# Altium footprint library WE-FB.PcbLib: 13 footprints
Each footprint in its own frame and in the unit in brackets; x right, y up, seen from the top. Pads: shape width x height; smd on the part's side, far side on the other; paste and mask are expansions set on the pad; w line width, h text height; cw(c..) or ccw(c..) is an arc to the next point about the centre after c.
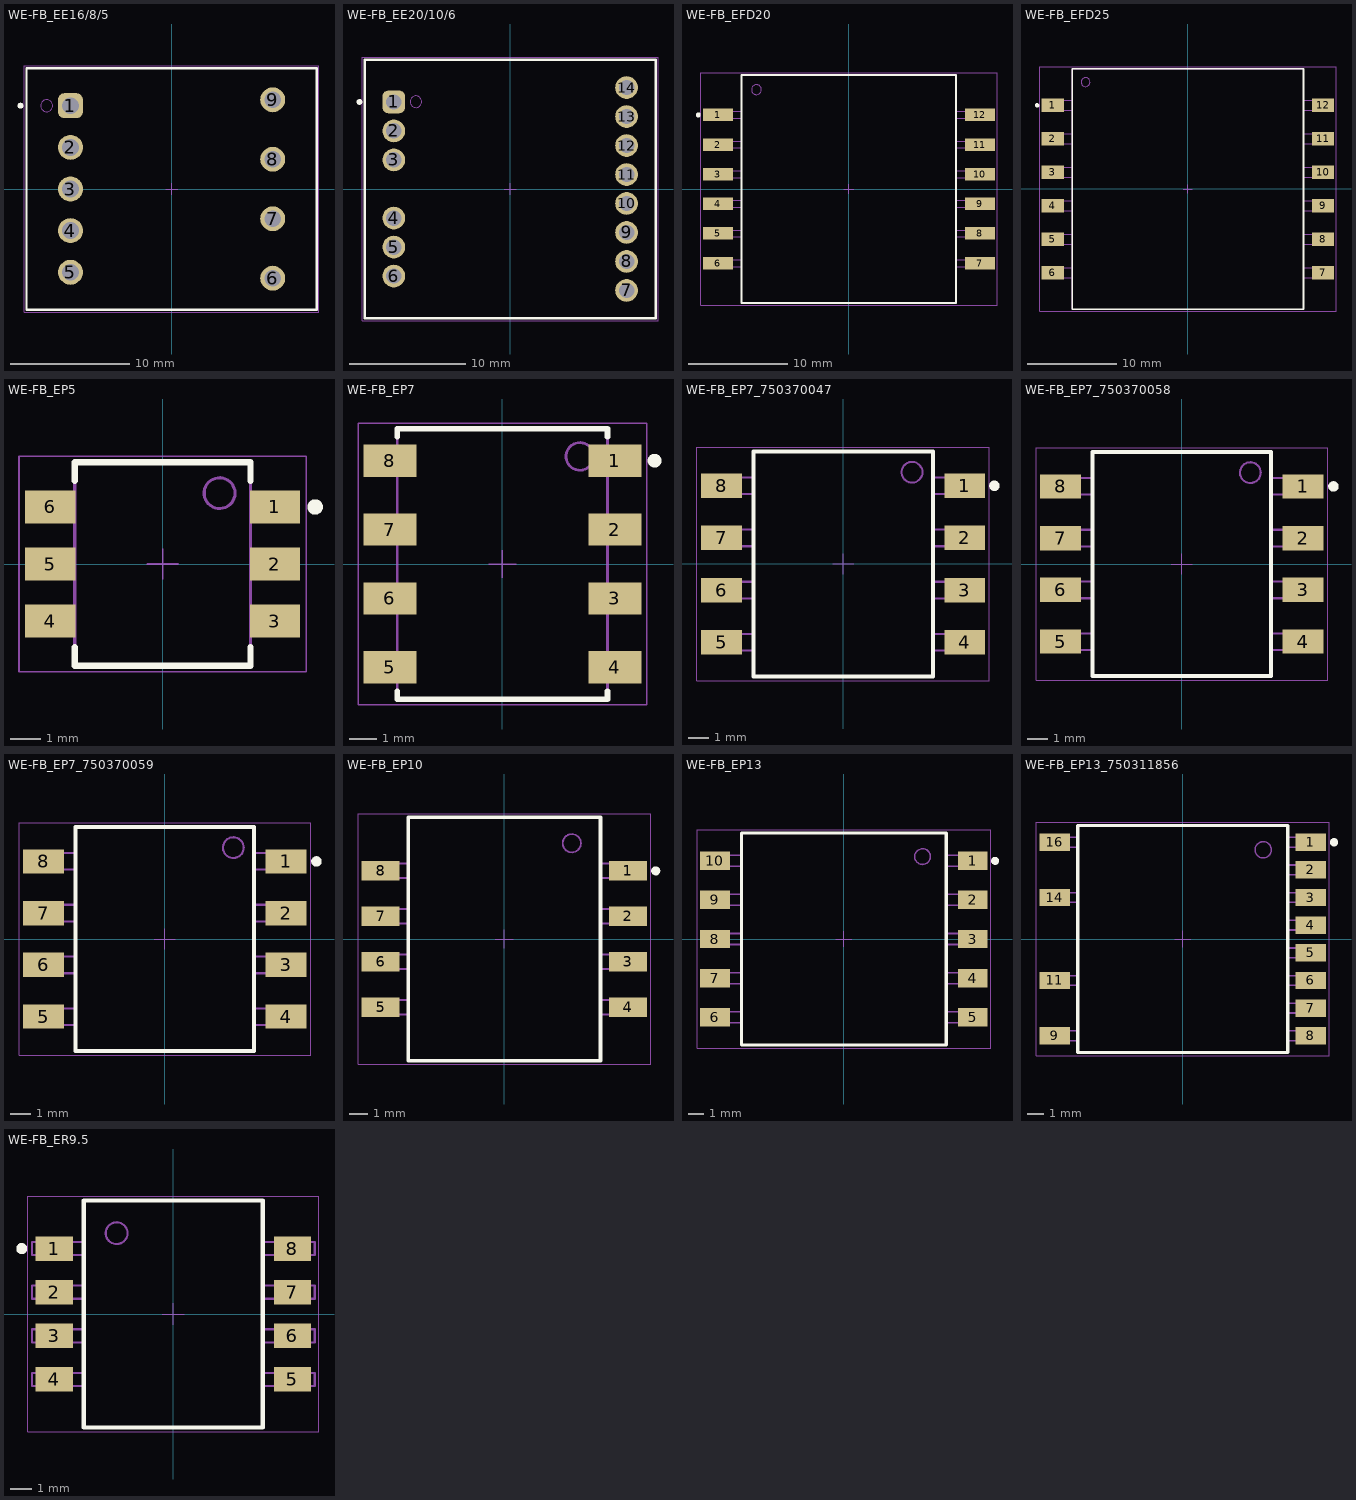
[diagram p0: the footprints below, top view; thin cyan lines are the x and y axes]

## WE-FB_EE16/8/5 [mm] "Flyback Transformer, size EE16/8/5"
height 16
pads (9):
  rrect50% 2.1x2.1 hole 1.42: 1(-8.5,7)
  round 2.1 hole 1.42: 2(-8.5,3.5) 3(-8.5,0) 4(-8.5,-3.5) 5(-8.5,-7) 6(8.5,-7.5) 7(8.5,-2.5) 8(8.5,2.5) 9(8.5,7.5)
Top Overlay:
  circle w0.25: c-12.7,7 r0.125
  lines w0.2: -12.19,-10.16 12.19,-10.16 12.19,10.16 -12.19,10.16 -12.19,-10.16
Top Designator:
  text ".Designator" at -7.498,-0.5 h1.5
Top Component Outline:
  circle w0.1: c-10.5,7 r0.5
  lines w0.1: -12.19,-10.16 12.19,-10.16 12.19,10.16 -12.19,10.16 -12.19,-10.16
Top Courtyard:
  lines w0.05: -0.5,0 0.5,0 ; 0,-0.5 0,0.5 ; -12.39,-10.36 12.39,-10.36 12.39,10.36 -12.39,10.36 -12.39,-10.36
3D body "750811048 (rev1).stp": height 14.95, standoff -3.45, extent -11.9,-9.9 11.9,9.9

## WE-FB_EE20/10/6 [mm] "Flyback Transformer, size EE20/10/6"
height 16
pads (14):
  rrect50% 1.95x1.95 hole 1.32: 1(-10,7.48)
  round 1.95 hole 1.32: 2(-10,4.99) 3(-10,2.5) 4(-10,-2.5) 5(-10,-4.99) 6(-10,-7.48) 7(10,-8.715) 8(10,-6.225) 9(10,-3.735) 10(10,-1.245) 11(10,1.245) 12(10,3.735) 13(10,6.225) 14(10,8.715)
Top Overlay:
  circle w0.25: c-12.95,7.48 r0.125
  lines w0.2: -12.5,-11.1 -12.5,11.1 12.5,11.1 12.5,-11.1 -12.5,-11.1
Top Designator:
  text ".Designator" at -7.498,-0.5 h1.5
Top Component Outline:
  circle w0.1: c-8.1,7.5 r0.5
  lines w0.1: -12.5,-11.1 -12.5,11.1 12.5,11.1 12.5,-11.1 -12.5,-11.1
Top Courtyard:
  lines w0.05: -0.5,0 0.5,0 ; 0,-0.5 0,0.5 ; -12.7,-11.3 -12.7,11.3 12.7,11.3 12.7,-11.3 -12.7,-11.3
3D body "750311911 (rev1).stp": height 15.43, standoff -3.47, extent -12.4,-10.45 12.4,10.45

## WE-FB_EFD20 [mm] "Flyback Transformer, size EFD20"
height 11.43
pads (12):
  rect 3.05x1.27 smd: 1(-13.26,7.5) 2(-13.26,4.5) 3(-13.26,1.5) 4(-13.26,-1.5) 5(-13.26,-4.5) 6(-13.26,-7.5) 7(13.26,-7.5) 8(13.26,-4.5) 9(13.26,-1.5) 10(13.26,1.5) 11(13.26,4.5) 12(13.26,7.5)
Top Overlay:
  circle w0.25: c-15.25,7.5 r0.125
  lines w0.2: -10.855,-11.555 10.855,-11.555 10.855,11.555 -10.855,11.555 -10.855,-11.555
Top Designator:
  text ".Designator" at -7.498,-0.5 h1.5
Top Component Outline:
  circle w0.1: c-9.355,10.055 r0.5
  lines w0.1: -10.855,-7.85 -14.465,-7.85 -14.465,-7.15 -10.855,-7.15 ; -10.855,-4.85 -14.465,-4.85 -14.465,-4.15 -10.855,-4.15 ; -10.855,-1.85 -14.465,-1.85 -14.465,-1.15 -10.855,-1.15 ; -10.855,1.15 -14.465,1.15 -14.465,1.85 -10.855,1.85 ; -10.855,4.15 -14.465,4.15 -14.465,4.85 -10.855,4.85 ; -10.855,7.15 -14.465,7.15 -14.465,7.85 -10.855,7.85 ; 10.855,-7.85 14.465,-7.85 14.465,-7.15 10.855,-7.15 ; 10.855,-4.85 14.465,-4.85 14.465,-4.15 10.855,-4.15 ; 10.855,-1.85 14.465,-1.85 14.465,-1.15 10.855,-1.15 ; 10.855,1.15 14.465,1.15 14.465,1.85 10.855,1.85 ; 10.855,4.15 14.465,4.15 14.465,4.85 10.855,4.85 ; 10.855,7.15 14.465,7.15 14.465,7.85 10.855,7.85 ; -10.855,-11.555 -10.855,11.555 10.855,11.555 10.855,-11.555 -10.855,-11.555
Top Courtyard:
  lines w0.05: -0.5,0 0.5,0 ; 0,-0.5 0,0.5 ; -14.985,-11.755 14.985,-11.755 14.985,11.755 -14.985,11.755 -14.985,-11.755
3D body "750311597 (rev1).stp": height 11.45, standoff 0.02, extent -14.54,-10 14.54,10

## WE-FB_EFD25 [mm] "Flyback Transformer, size EFD25"
height 13.69
pads (12):
  rect 2.5x1.52 smd: 1(-15.19,9.4) 2(-15.19,5.64) 3(-15.19,1.88) 4(-15.19,-1.88) 5(-15.19,-5.64) 6(-15.19,-9.4) 7(15.19,-9.4) 8(15.19,-5.64) 9(15.19,-1.88) 10(15.19,1.88) 11(15.19,5.64) 12(15.19,9.4)
Top Overlay:
  circle w0.25: c-16.95,9.4 r0.125
  lines w0.2: -13,-13.515 13,-13.515 13,13.515 -13,13.515 -13,-13.515
Top Designator:
  text ".Designator" at -7.498,-0.5 h1.5
Top Component Outline:
  circle w0.1: c-11.5,12.015 r0.5
  lines w0.1: -13,-9.95 -15.75,-9.95 -15.75,-8.85 -13,-8.85 ; -13,-6.19 -15.75,-6.19 -15.75,-5.09 -13,-5.09 ; -13,-2.43 -15.75,-2.43 -15.75,-1.33 -13,-1.33 ; -13,1.33 -15.75,1.33 -15.75,2.43 -13,2.43 ; -13,5.09 -15.75,5.09 -15.75,6.19 -13,6.19 ; -13,8.85 -15.75,8.85 -15.75,9.95 -13,9.95 ; 13,-9.95 15.75,-9.95 15.75,-8.85 13,-8.85 ; 13,-6.19 15.75,-6.19 15.75,-5.09 13,-5.09 ; 13,-2.43 15.75,-2.43 15.75,-1.33 13,-1.33 ; 13,1.33 15.75,1.33 15.75,2.43 13,2.43 ; 13,5.09 15.75,5.09 15.75,6.19 13,6.19 ; 13,8.85 15.75,8.85 15.75,9.95 13,9.95 ; -13,-13.515 -13,13.515 13,13.515 13,-13.515 -13,-13.515
Top Courtyard:
  lines w0.05: -0.5,0 0.5,0 ; 0,-0.5 0,0.5 ; -16.64,-13.715 16.64,-13.715 16.64,13.715 -16.64,13.715 -16.64,-13.715
3D body "STEP-750311589-rev1.stp": height 13.05, standoff 0.05, extent -15.75,-12.5 15.75,12.5

## WE-FB_EP5 [mm] "Flyback Transformer, size EP5"
height 5.59
pads (6):
  rect 1.63x1.07 smd: 1(3.645,1.85) 2(3.645,0) 3(3.645,-1.85) 4(-3.645,-1.85) 5(-3.645,0) 6(-3.645,1.85)
Top Overlay:
  circle w0.25: c4.95,1.85 r0.125
  lines w0.2: -2.85,-2.7 -2.85,-3.3 2.85,-3.3 2.85,-2.7 ; -2.85,2.7 -2.85,3.3 2.85,3.3 2.85,2.7
Top Designator:
  text ".Designator" at -7.498,-0.5 h1.5
Top Component Outline:
  circle w0.1: c1.85,2.3 r0.5
  lines w0.1: -2.85,-2.15 -3.91,-2.15 -3.91,-1.55 -2.85,-1.55 ; -2.85,-0.3 -3.91,-0.3 -3.91,0.3 -2.85,0.3 ; -2.85,1.55 -3.91,1.55 -3.91,2.15 -2.85,2.15 ; 2.85,-2.15 3.91,-2.15 3.91,-1.55 2.85,-1.55 ; 2.85,-0.3 3.91,-0.3 3.91,0.3 2.85,0.3 ; 2.85,1.55 3.91,1.55 3.91,2.15 2.85,2.15 ; -2.85,-3.3 -2.85,3.3 2.85,3.3 2.85,-3.3 -2.85,-3.3
Top Courtyard:
  lines w0.05: -0.5,0 0.5,0 ; 0,-0.5 0,0.5 ; -4.66,-3.5 -4.66,3.5 4.66,3.5 4.66,-3.5 -4.66,-3.5
3D body "STEP-750311691-rev1.stp": height 5.1, standoff 0, extent -3.85,-3.075 3.85,3.075

## WE-FB_EP7 [mm] "Flyback Transformer, size EP7"
height 10.54
pads (8):
  rect 1.91x1.17 smd: 1(4.065,3.735) 2(4.065,1.245) 3(4.065,-1.245) 4(4.065,-3.735) 5(-4.065,-3.735) 6(-4.065,-1.245) 7(-4.065,1.245) 8(-4.065,3.735)
Top Overlay:
  circle w0.25: c5.5,3.735 r0.125
  lines w0.2: -3.8,-4.6 -3.8,-4.89 3.8,-4.89 3.8,-4.6 ; -3.8,4.6 -3.8,4.89 3.8,4.89 3.8,4.6
Top Designator:
  text ".Designator" at -7.498,-0.5 h1.5
Top Component Outline:
  circle w0.1: c2.8,3.89 r0.5
  lines w0.1: -3.8,-4.085 -4.57,-4.085 -4.57,-3.385 -3.8,-3.385 ; -3.8,-1.595 -4.57,-1.595 -4.57,-0.895 -3.8,-0.895 ; -3.8,0.895 -4.57,0.895 -4.57,1.595 -3.8,1.595 ; -3.8,3.385 -4.57,3.385 -4.57,4.085 -3.8,4.085 ; 3.8,-4.085 4.57,-4.085 4.57,-3.385 3.8,-3.385 ; 3.8,-1.595 4.57,-1.595 4.57,-0.895 3.8,-0.895 ; 3.8,0.895 4.57,0.895 4.57,1.595 3.8,1.595 ; 3.8,3.385 4.57,3.385 4.57,4.085 3.8,4.085 ; -3.8,-4.89 -3.8,4.89 3.8,4.89 3.8,-4.89 -3.8,-4.89
Top Courtyard:
  lines w0.05: -0.5,0 0.5,0 ; 0,-0.5 0,0.5 ; -5.22,-5.09 -5.22,5.09 5.22,5.09 5.22,-5.09 -5.22,-5.09
3D body "STEP-750370040-rev1.stp": height 10.55, standoff 0.01, extent -4.57,-4.89 4.57,4.89

## WE-FB_EP7_750370047 [mm] "Flyback Transformer, size EP7"
height 9.14
pads (8):
  rect 1.96x1.17 smd: 1(5.83,3.75) 2(5.83,1.25) 3(5.83,-1.25) 4(5.83,-3.75) 5(-5.83,-3.75) 6(-5.83,-1.25) 7(-5.83,1.25) 8(-5.83,3.75)
Top Overlay:
  circle w0.25: c7.25,3.75 r0.125
  lines w0.2: -4.3,-5.4 -4.3,5.4 4.3,5.4 4.3,-5.4 -4.3,-5.4
Top Designator:
  text ".Designator" at -7.498,-0.5 h1.5
Top Component Outline:
  circle w0.1: c3.3,4.4 r0.5
  lines w0.1: -4.3,-4.15 -6.68,-4.15 -6.68,-3.35 -4.3,-3.35 ; -4.3,-1.65 -6.68,-1.65 -6.68,-0.85 -4.3,-0.85 ; -4.3,0.85 -6.68,0.85 -6.68,1.65 -4.3,1.65 ; -4.3,3.35 -6.68,3.35 -6.68,4.15 -4.3,4.15 ; 4.3,-4.15 6.68,-4.15 6.68,-3.35 4.3,-3.35 ; 4.3,-1.65 6.68,-1.65 6.68,-0.85 4.3,-0.85 ; 4.3,0.85 6.68,0.85 6.68,1.65 4.3,1.65 ; 4.3,3.35 6.68,3.35 6.68,4.15 4.3,4.15 ; -4.3,-5.4 -4.3,5.4 4.3,5.4 4.3,-5.4 -4.3,-5.4
Top Courtyard:
  lines w0.05: -0.5,0 0.5,0 ; 0,-0.5 0,0.5 ; -7.01,-5.6 -7.01,5.6 7.01,5.6 7.01,-5.6 -7.01,-5.6
3D body "EP7-big.stp": height 9.15, standoff 0.01, extent -6.675,-5.4 6.675,5.4

## WE-FB_EP7_750370058 [mm] "Flyback Transformer, size EP7"
height 9.14
pads (8):
  rect 1.96x1.17 smd: 1(5.84,3.735) 2(5.84,1.245) 3(5.84,-1.245) 4(5.84,-3.735) 5(-5.84,-3.735) 6(-5.84,-1.245) 7(-5.84,1.245) 8(-5.84,3.735)
Top Overlay:
  circle w0.25: c7.3,3.735 r0.125
  lines w0.2: -4.3,-5.4 -4.3,5.4 4.3,5.4 4.3,-5.4 -4.3,-5.4
Top Designator:
  text ".Designator" at -7.498,-0.5 h1.5
Top Component Outline:
  circle w0.1: c3.3,4.4 r0.5
  lines w0.1: -4.3,-4.15 -6.68,-4.15 -6.68,-3.35 -4.3,-3.35 ; -4.3,-1.65 -6.68,-1.65 -6.68,-0.85 -4.3,-0.85 ; -4.3,0.85 -6.68,0.85 -6.68,1.65 -4.3,1.65 ; -4.3,3.35 -6.68,3.35 -6.68,4.15 -4.3,4.15 ; 4.3,-4.15 6.68,-4.15 6.68,-3.35 4.3,-3.35 ; 4.3,-1.65 6.68,-1.65 6.68,-0.85 4.3,-0.85 ; 4.3,0.85 6.68,0.85 6.68,1.65 4.3,1.65 ; 4.3,3.35 6.68,3.35 6.68,4.15 4.3,4.15 ; -4.3,-5.4 -4.3,5.4 4.3,5.4 4.3,-5.4 -4.3,-5.4
Top Courtyard:
  lines w0.05: -0.5,0 0.5,0 ; 0,-0.5 0,0.5 ; -7.02,-5.6 -7.02,5.6 7.02,5.6 7.02,-5.6 -7.02,-5.6
3D body "EP7-big.stp": height 9.15, standoff 0.01, extent -6.675,-5.4 6.675,5.4

## WE-FB_EP7_750370059 [mm] "Flyback Transformer, size EP7"
height 9.14
pads (8):
  rect 1.96x1.17 smd: 1(5.84,3.735) 2(5.84,1.245) 3(5.84,-1.245) 4(5.84,-3.735) 5(-5.84,-3.735) 6(-5.84,-1.245) 7(-5.84,1.245) 8(-5.84,3.735)
Top Overlay:
  circle w0.25: c7.3,3.735 r0.125
  lines w0.2: -4.3,-5.4 -4.3,5.4 4.3,5.4 4.3,-5.4 -4.3,-5.4
Top Designator:
  text ".Designator" at -7.498,-0.5 h1.5
Top Component Outline:
  circle w0.1: c3.3,4.4 r0.5
  lines w0.1: -4.3,-4.15 -6.68,-4.15 -6.68,-3.35 -4.3,-3.35 ; -4.3,-1.65 -6.68,-1.65 -6.68,-0.85 -4.3,-0.85 ; -4.3,0.85 -6.68,0.85 -6.68,1.65 -4.3,1.65 ; -4.3,3.35 -6.68,3.35 -6.68,4.15 -4.3,4.15 ; 4.3,-4.15 6.68,-4.15 6.68,-3.35 4.3,-3.35 ; 4.3,-1.65 6.68,-1.65 6.68,-0.85 4.3,-0.85 ; 4.3,0.85 6.68,0.85 6.68,1.65 4.3,1.65 ; 4.3,3.35 6.68,3.35 6.68,4.15 4.3,4.15 ; -4.3,-5.4 -4.3,5.4 4.3,5.4 4.3,-5.4 -4.3,-5.4
Top Courtyard:
  lines w0.05: -0.5,0 0.5,0 ; 0,-0.5 0,0.5 ; -7.02,-5.6 -7.02,5.6 7.02,5.6 7.02,-5.6 -7.02,-5.6
3D body "EP7-big.stp": height 9.15, standoff 0.01, extent -6.675,-5.4 6.675,5.4

## WE-FB_EP10 [mm] "Flyback Transformer, size EP10"
height 11.43
pads (8):
  rect 2.08x1.07 smd: 1(6.78,3.735) 2(6.78,1.245) 3(6.78,-1.245) 4(6.78,-3.735) 5(-6.78,-3.735) 6(-6.78,-1.245) 7(-6.78,1.245) 8(-6.78,3.735)
Top Overlay:
  circle w0.25: c8.3,3.735 r0.125
  lines w0.2: -5.27,-6.67 5.27,-6.67 5.27,6.67 -5.27,6.67 -5.27,-6.67
Top Designator:
  text ".Designator" at -7.498,-0.5 h1.5
Top Component Outline:
  circle w0.1: c3.7,5.25 r0.5
  lines w0.1: -5.27,-4.135 -7.62,-4.135 -7.62,-3.335 -5.27,-3.335 ; -5.27,-1.645 -7.62,-1.645 -7.62,-0.845 -5.27,-0.845 ; -5.27,0.845 -7.62,0.845 -7.62,1.645 -5.27,1.645 ; -5.27,3.335 -7.62,3.335 -7.62,4.135 -5.27,4.135 ; 5.27,-4.135 7.62,-4.135 7.62,-3.335 5.27,-3.335 ; 5.27,-1.645 7.62,-1.645 7.62,-0.845 5.27,-0.845 ; 5.27,0.845 7.62,0.845 7.62,1.645 5.27,1.645 ; 5.27,3.335 7.62,3.335 7.62,4.135 5.27,4.135 ; -5.27,-6.67 -5.27,6.67 5.27,6.67 5.27,-6.67 -5.27,-6.67
Top Courtyard:
  lines w0.05: -0.5,0 0.5,0 ; 0,-0.5 0,0.5 ; -8.02,-6.87 8.02,-6.87 8.02,6.87 -8.02,6.87 -8.02,-6.87
3D body "STEP-750310559-rev1.stp": height 11.44, standoff 0.01, extent -7.62,-5.9 7.62,5.9

## WE-FB_EP13 [mm] "Flyback Transformer, size EP13"
height 12.7
pads (10):
  rect 1.88x1.17 smd: 1(8.18,4.96) 2(8.18,2.48) 3(8.18,0) 4(8.18,-2.48) 5(8.18,-4.96) 6(-8.18,-4.96) 7(-8.18,-2.48) 8(-8.18,0) 9(-8.18,2.48) 10(-8.18,4.96)
Top Overlay:
  circle w0.25: c9.6,4.96 r0.125
  lines w0.2: -6.5,-6.73 -6.5,6.73 6.5,6.73 6.5,-6.73 -6.5,-6.73
Top Designator:
  text ".Designator" at -7.498,-0.5 h1.5
Top Component Outline:
  circle w0.1: c5,5.23 r0.5
  lines w0.1: -6.5,-5.31 -8.88,-5.31 -8.88,-4.61 -6.5,-4.61 ; -6.5,-2.83 -8.88,-2.83 -8.88,-2.13 -6.5,-2.13 ; -6.5,-0.35 -8.88,-0.35 -8.88,0.35 -6.5,0.35 ; -6.5,2.13 -8.88,2.13 -8.88,2.83 -6.5,2.83 ; -6.5,4.61 -8.88,4.61 -8.88,5.31 -6.5,5.31 ; 6.5,-5.31 8.88,-5.31 8.88,-4.61 6.5,-4.61 ; 6.5,-2.83 8.88,-2.83 8.88,-2.13 6.5,-2.13 ; 6.5,-0.35 8.88,-0.35 8.88,0.35 6.5,0.35 ; 6.5,2.13 8.88,2.13 8.88,2.83 6.5,2.83 ; 6.5,4.61 8.88,4.61 8.88,5.31 6.5,5.31 ; -6.5,-6.73 -6.5,6.73 6.5,6.73 6.5,-6.73 -6.5,-6.73
Top Courtyard:
  lines w0.05: -0.5,0 0.5,0 ; 0,-0.5 0,0.5 ; -9.32,-6.93 -9.32,6.93 9.32,6.93 9.32,-6.93 -9.32,-6.93
3D body "STEP-750311458-rev1.stp": height 12.5, standoff 0, extent -8.875,-6.75 8.875,6.75

## WE-FB_EP13_750311856 [mm] "Flyback Transformer, size EP13"
height 12.7
pads (12):
  rect 1.88x1.07 smd: 1(7.885,5.95) 2(7.885,4.25) 3(7.885,2.55) 4(7.885,0.85) 5(7.885,-0.85) 6(7.885,-2.55) 7(7.885,-4.25) 8(7.885,-5.95) 9(-7.885,-5.95) 11(-7.885,-2.55) 14(-7.885,2.55) 16(-7.885,5.95)
Top Overlay:
  circle w0.25: c9.3,5.95 r0.125
  lines w0.2: -6.45,-6.985 6.45,-6.985 6.45,6.985 -6.45,6.985 -6.45,-6.985
Top Designator:
  text ".Designator" at -7.498,-0.5 h1.5
Top Component Outline:
  circle w0.1: c4.95,5.485 r0.5
  lines w0.1: -6.45,-6.25 -8.59,-6.25 -8.59,-5.65 -6.45,-5.65 ; -6.45,-2.85 -8.59,-2.85 -8.59,-2.25 -6.45,-2.25 ; -6.45,2.25 -8.59,2.25 -8.59,2.85 -6.45,2.85 ; -6.45,5.65 -8.59,5.65 -8.59,6.25 -6.45,6.25 ; 6.45,-6.25 8.59,-6.25 8.59,-5.65 6.45,-5.65 ; 6.45,-4.55 8.59,-4.55 8.59,-3.95 6.45,-3.95 ; 6.45,-2.85 8.59,-2.85 8.59,-2.25 6.45,-2.25 ; 6.45,-1.15 8.59,-1.15 8.59,-0.55 6.45,-0.55 ; 6.45,0.55 8.59,0.55 8.59,1.15 6.45,1.15 ; 6.45,2.25 8.59,2.25 8.59,2.85 6.45,2.85 ; 6.45,3.95 8.59,3.95 8.59,4.55 6.45,4.55 ; 6.45,5.65 8.59,5.65 8.59,6.25 6.45,6.25 ; -6.45,-6.985 6.45,-6.985 6.45,6.985 -6.45,6.985 -6.45,-6.985
Top Courtyard:
  lines w0.05: -0.5,0 0.5,0 ; 0,-0.5 0,0.5 ; -9.025,-7.185 9.025,-7.185 9.025,7.185 -9.025,7.185 -9.025,-7.185
3D body "STEP-750311856-rev1.stp": height 12.71, standoff 0, extent -8.585,-6.985 8.585,6.985

## WE-FB_ER9.5 [mm] "Flyback Transformer, size ER9.5"
height 5.97
pads (8):
  rect 1.7x1.12 smd: 1(-5.46,3) 2(-5.46,1) 3(-5.46,-1) 4(-5.46,-3) 5(5.46,-3) 6(5.46,-1) 7(5.46,1) 8(5.46,3)
Top Overlay:
  circle w0.25: c-6.95,3 r0.125
  lines w0.2: -4.1,-5.205 -4.1,5.205 4.1,5.205 4.1,-5.205 -4.1,-5.205
Top Designator:
  text ".Designator" at -7.498,-0.5 h1.5
Top Component Outline:
  circle w0.1: c-2.6,3.705 r0.5
  lines w0.1: -4.1,-3.3 -6.48,-3.3 -6.48,-2.7 -4.1,-2.7 ; -4.1,-1.3 -6.48,-1.3 -6.48,-0.7 -4.1,-0.7 ; -4.1,0.7 -6.48,0.7 -6.48,1.3 -4.1,1.3 ; -4.1,2.7 -6.48,2.7 -6.48,3.3 -4.1,3.3 ; 4.1,-3.3 6.48,-3.3 6.48,-2.7 4.1,-2.7 ; 4.1,-1.3 6.48,-1.3 6.48,-0.7 4.1,-0.7 ; 4.1,0.7 6.48,0.7 6.48,1.3 4.1,1.3 ; 4.1,2.7 6.48,2.7 6.48,3.3 4.1,3.3 ; -4.1,-5.205 -4.1,5.205 4.1,5.205 4.1,-5.205 -4.1,-5.205
Top Courtyard:
  lines w0.05: -0.5,0 0.5,0 ; 0,-0.5 0,0.5 ; -6.675,-5.405 -6.675,5.405 6.675,5.405 6.675,-5.405 -6.675,-5.405
3D body "ER9.5_750370042.stp": height 5.97, standoff 0, extent -6.475,-4.75 6.475,4.75